# EAGLE library part RK097-DUAL-ELEMENT (library alps_japan_potentiometers1)
SCHEMATIC FOR DUAL POTENTIOMETER
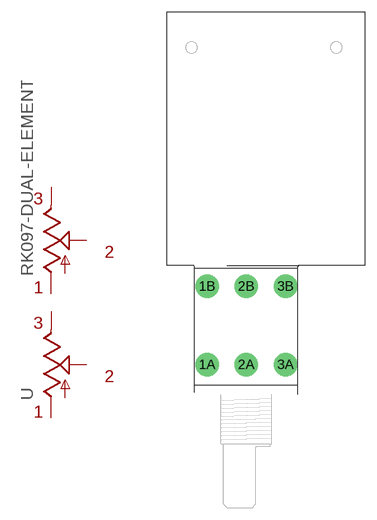
[diagram p0: symbol with the pads of RK097-DUAL-ELEMENT; footprint RK097-DUAL-ELEMENT]

Designator prefix -

## RK097-DUAL-ELEMENT  [RK097-DUAL-ELEMENT]
1A  1A  pas
1B  1B  pas
2A  2A  pas
2B  2B  pas
3A  3A  pas
3B  3B  pas

## Footprint RK097-DUAL-ELEMENT (pad centres in mm)
ALPS RK097 Dual Element D-Shaft
drill 1.3 pad 3 round: 1A -5,0; 1B -5,10; 2A 0,0; 2B 0,10; 3A 5,0; 3B 5,10